# Altium footprint library CN_SAMTEC_ESQ-106-14-G-S.PcbLib: 1 footprints
Each footprint in its own frame and in the unit in brackets; x right, y up, seen from the top. Pads: shape width x height; smd on the part's side, far side on the other; paste and mask are expansions set on the pad; w line width, h text height; cw(c..) or ccw(c..) is an arc to the next point about the centre after c.
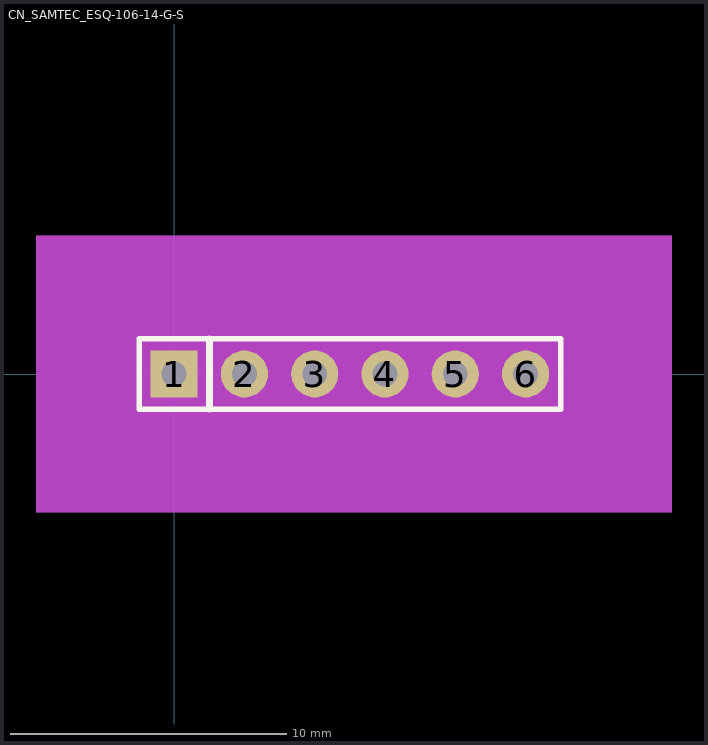
[diagram p0: the footprint, top view; thin cyan lines are the x and y axes]

## CN_SAMTEC_ESQ-106-14-G-S [mm] "ESQ-106-14-G-S"
pads (6):
  rect 1.7x1.7 hole 0.9: 1(0,0)
  round 1.7 hole 0.9: 2(2.54,0) 3(5.08,0) 4(7.62,0) 5(10.16,0) 6(12.7,0)
Top Overlay:
  lines w0.2: -1.27,-1.27 13.97,-1.27 13.97,1.27 -1.27,1.27 -1.27,-1.27
  lines w0.254: 1.27,-1.27 1.27,1.27
Mechanical 3 keep-out:
  rectangle: -5,-5 18,5
3D body: height 11.06, standoff -12.18, extent -1.524,-1.27 14.224,1.27